# Altium footprint library Pattern No3d 20090609.PcbLib: 323 footprints (part 12 of 22)
Each footprint in its own frame and in the unit in brackets; x right, y up, seen from the top. Pads: shape width x height; smd on the part's side, far side on the other; paste and mask are expansions set on the pad; w line width, h text height; cw(c..) or ccw(c..) is an arc to the next point about the centre after c.
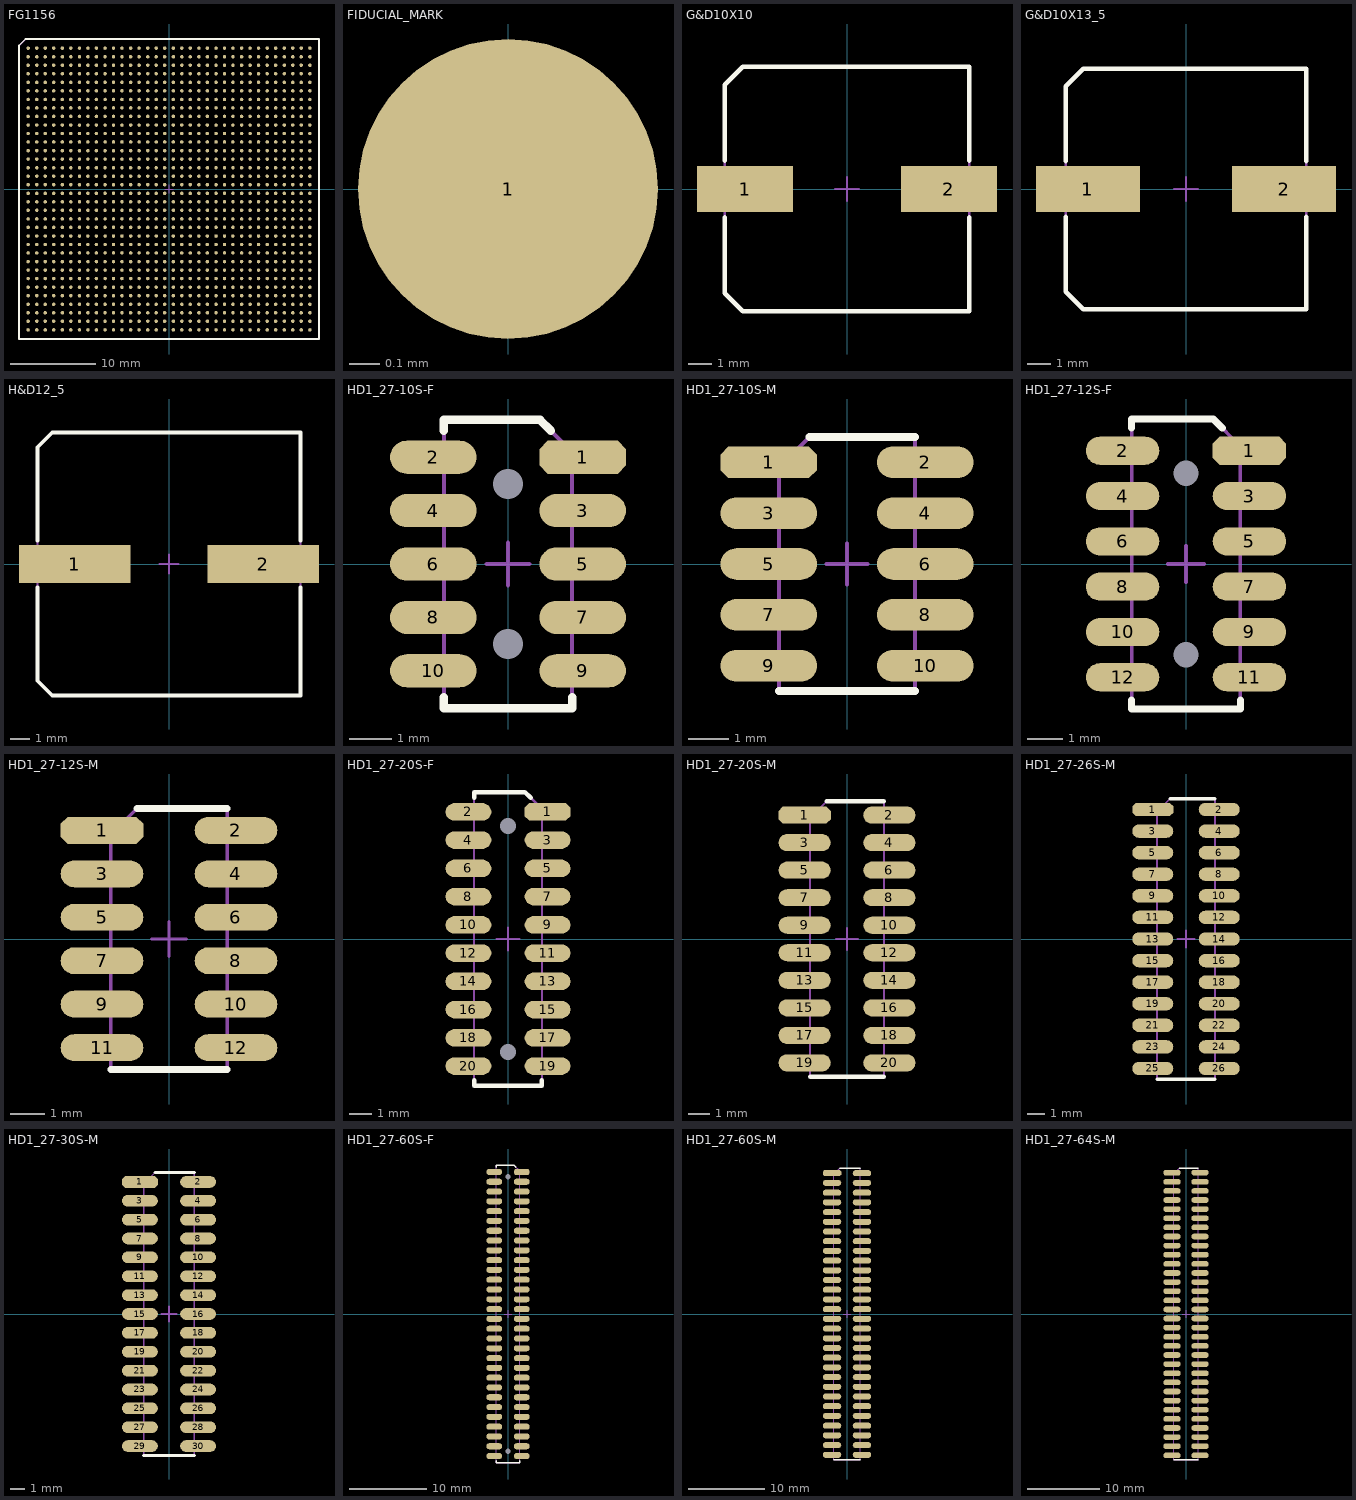
[diagram p11: the footprints below, top view; thin cyan lines are the x and y axes]

## FG1156 [mil] "http://www.xilinx.com/support/documentation/package_specs/fg1156.pdf"
pads (1156):
  oct 16x16 smd mask+3: A1(-650,650)
  round 16 smd mask+3: A2(-610,650) A3(-571,650) A4(-532,650) A5(-492,650) A6(-453,650) A7(-413,650) A8(-374,650) A9(-335,650) A10(-295,650) A11(-256,650) A12(-217,650) A13(-177,650) A14(-138,650) A15(-98,650) A16(-59,650) A17(-20,650) A18(20,650) A19(59,650) A20(98,650) A21(138,650) A22(177,650) A23(217,650) A24(256,650) A25(295,650) A26(335,650) A27(374,650) A28(413,650) A29(453,650) A30(492,650) A31(532,650) A32(571,650) A33(610,650) A34(650,650) AA1(-650,-138) AA2(-610,-138) AA3(-571,-138) AA4(-532,-138) AA5(-492,-138) AA6(-453,-138) AA7(-413,-138) AA8(-374,-138) AA9(-335,-138) AA10(-295,-138) AA11(-256,-138) AA12(-217,-138) AA13(-177,-138) AA14(-138,-138) AA15(-98,-138) AA16(-59,-138) AA17(-20,-138) AA18(20,-138) AA19(59,-138) AA20(98,-138) AA21(138,-138) AA22(177,-138) AA23(217,-138) AA24(256,-138) AA25(295,-138) AA26(335,-138) AA27(374,-138) AA28(413,-138) AA29(453,-138) AA30(492,-138) AA31(532,-138) AA32(571,-138) AA33(610,-138) AA34(650,-138) AB1(-650,-177) AB2(-610,-177) AB3(-571,-177) AB4(-532,-177) AB5(-492,-177) AB6(-453,-177) AB7(-413,-177) AB8(-374,-177) AB9(-335,-177) AB10(-295,-177) AB11(-256,-177) AB12(-217,-177) AB13(-177,-177) AB14(-138,-177) AB15(-98,-177) AB16(-59,-177) AB17(-20,-177) AB18(20,-177) AB19(59,-177) AB20(98,-177) AB21(138,-177) AB22(177,-177) AB23(217,-177) AB24(256,-177) AB25(295,-177) AB26(335,-177) AB27(374,-177) AB28(413,-177) AB29(453,-177) AB30(492,-177) AB31(532,-177) AB32(571,-177) AB33(610,-177) AB34(650,-177) AC1(-650,-217) AC2(-610,-217) AC3(-571,-217) AC4(-532,-217) AC5(-492,-217) AC6(-453,-217) AC7(-413,-217) AC8(-374,-217) AC9(-335,-217) AC10(-295,-217) AC11(-256,-217) AC12(-217,-217) AC13(-177,-217) AC14(-138,-217) AC15(-98,-217) AC16(-59,-217) AC17(-20,-217) AC18(20,-217) AC19(59,-217) AC20(98,-217) AC21(138,-217) AC22(177,-217) AC23(217,-217) AC24(256,-217) AC25(295,-217) AC26(335,-217) AC27(374,-217) AC28(413,-217) AC29(453,-217) AC30(492,-217) AC31(532,-217) AC32(571,-217) AC33(610,-217) AC34(650,-217) AD1(-650,-256) AD2(-610,-256) AD3(-571,-256) AD4(-532,-256) AD5(-492,-256) AD6(-453,-256) AD7(-413,-256) AD8(-374,-256) AD9(-335,-256) AD10(-295,-256) AD11(-256,-256) AD12(-217,-256) AD13(-177,-256) AD14(-138,-256) AD15(-98,-256) AD16(-59,-256) AD17(-20,-256) AD18(20,-256) AD19(59,-256) AD20(98,-256) AD21(138,-256) AD22(177,-256) AD23(217,-256) AD24(256,-256) AD25(295,-256) AD26(335,-256) AD27(374,-256) AD28(413,-256) AD29(453,-256) AD30(492,-256) AD31(532,-256) AD32(571,-256) AD33(610,-256) AD34(650,-256) AE1(-650,-295) AE2(-610,-295) AE3(-571,-295) AE4(-532,-295) AE5(-492,-295) AE6(-453,-295) AE7(-413,-295) AE8(-374,-295) AE9(-335,-295) AE10(-295,-295) AE11(-256,-295) AE12(-217,-295) AE13(-177,-295) AE14(-138,-295) AE15(-98,-295) AE16(-59,-295) AE17(-20,-295) AE18(20,-295) AE19(59,-295) AE20(98,-295) AE21(138,-295) AE22(177,-295) AE23(217,-295) AE24(256,-295) AE25(295,-295) AE26(335,-295) AE27(374,-295) AE28(413,-295) AE29(453,-295) AE30(492,-295) AE31(532,-295) AE32(571,-295) AE33(610,-295) AE34(650,-295) AF1(-650,-335) AF2(-610,-335) AF3(-571,-335) AF4(-532,-335) AF5(-492,-335) AF6(-453,-335) AF7(-413,-335) AF8(-374,-335) AF9(-335,-335) AF10(-295,-335) AF11(-256,-335) AF12(-217,-335) AF13(-177,-335) AF14(-138,-335) AF15(-98,-335) AF16(-59,-335) AF17(-20,-335) AF18(20,-335) AF19(59,-335) AF20(98,-335) AF21(138,-335) AF22(177,-335) AF23(217,-335) AF24(256,-335) AF25(295,-335) AF26(335,-335) AF27(374,-335) AF28(413,-335) AF29(453,-335) AF30(492,-335) AF31(532,-335) AF32(571,-335) AF33(610,-335) AF34(650,-335) AG1(-650,-374) AG2(-610,-374) AG3(-571,-374) AG4(-532,-374) AG5(-492,-374) AG6(-453,-374) AG7(-413,-374) AG8(-374,-374) AG9(-335,-374) AG10(-295,-374) AG11(-256,-374) AG12(-217,-374) AG13(-177,-374) AG14(-138,-374) AG15(-98,-374) AG16(-59,-374) AG17(-20,-374) AG18(20,-374) AG19(59,-374) AG20(98,-374) AG21(138,-374) AG22(177,-374) AG23(217,-374) AG24(256,-374) AG25(295,-374) AG26(335,-374) AG27(374,-374) AG28(413,-374) AG29(453,-374) AG30(492,-374) AG31(532,-374) AG32(571,-374) AG33(610,-374) AG34(650,-374) AH1(-650,-413) AH2(-610,-413) AH3(-571,-413) AH4(-532,-413) AH5(-492,-413) AH6(-453,-413) AH7(-413,-413) AH8(-374,-413) AH9(-335,-413) AH10(-295,-413) AH11(-256,-413) AH12(-217,-413) AH13(-177,-413) AH14(-138,-413) AH15(-98,-413) AH16(-59,-413) AH17(-20,-413) AH18(20,-413) AH19(59,-413) AH20(98,-413) AH21(138,-413) AH22(177,-413) AH23(217,-413) AH24(256,-413) AH25(295,-413) AH26(335,-413) AH27(374,-413) AH28(413,-413) AH29(453,-413) AH30(492,-413) AH31(532,-413) AH32(571,-413) AH33(610,-413) AH34(650,-413) AJ1(-650,-453) AJ2(-610,-453) AJ3(-571,-453) AJ4(-532,-453) AJ5(-492,-453) AJ6(-453,-453) AJ7(-413,-453) AJ8(-374,-453) AJ9(-335,-453) AJ10(-295,-453) AJ11(-256,-453) AJ12(-217,-453) AJ13(-177,-453) AJ14(-138,-453) AJ15(-98,-453) AJ16(-59,-453) AJ17(-20,-453) AJ18(20,-453) AJ19(59,-453) AJ20(98,-453) AJ21(138,-453) AJ22(177,-453) AJ23(217,-453) AJ24(256,-453) AJ25(295,-453) AJ26(335,-453) AJ27(374,-453) AJ28(413,-453) AJ29(453,-453) AJ30(492,-453) AJ31(532,-453) AJ32(571,-453) AJ33(610,-453) AJ34(650,-453) AK1(-650,-492) AK2(-610,-492) AK3(-571,-492) AK4(-532,-492) AK5(-492,-492) AK6(-453,-492) AK7(-413,-492) AK8(-374,-492) AK9(-335,-492) AK10(-295,-492) AK11(-256,-492) AK12(-217,-492) AK13(-177,-492) AK14(-138,-492) AK15(-98,-492) AK16(-59,-492) AK17(-20,-492) AK18(20,-492) AK19(59,-492) AK20(98,-492) AK21(138,-492) AK22(177,-492) AK23(217,-492) AK24(256,-492) AK25(295,-492) AK26(335,-492) AK27(374,-492) AK28(413,-492) AK29(453,-492) AK30(492,-492) AK31(532,-492) AK32(571,-492) AK33(610,-492) AK34(650,-492) AL1(-650,-532) AL2(-610,-532) AL3(-571,-532) AL4(-532,-532) AL5(-492,-532) AL6(-453,-532) AL7(-413,-532) AL8(-374,-532) AL9(-335,-532) AL10(-295,-532) AL11(-256,-532) AL12(-217,-532) AL13(-177,-532) AL14(-138,-532) AL15(-98,-532) AL16(-59,-532) AL17(-20,-532) AL18(20,-532) AL19(59,-532) AL20(98,-532) AL21(138,-532) AL22(177,-532) AL23(217,-532) AL24(256,-532) AL25(295,-532) AL26(335,-532) AL27(374,-532) AL28(413,-532) AL29(453,-532) AL30(492,-532) AL31(532,-532) AL32(571,-532) AL33(610,-532) AL34(650,-532) AM1(-650,-571) AM2(-610,-571) AM3(-571,-571) AM4(-532,-571) AM5(-492,-571) AM6(-453,-571) AM7(-413,-571) AM8(-374,-571) AM9(-335,-571) AM10(-295,-571) AM11(-256,-571) AM12(-217,-571) AM13(-177,-571) AM14(-138,-571) AM15(-98,-571) AM16(-59,-571) AM17(-20,-571) AM18(20,-571) AM19(59,-571) AM20(98,-571) AM21(138,-571) AM22(177,-571) AM23(217,-571) AM24(256,-571) AM25(295,-571) AM26(335,-571) AM27(374,-571) AM28(413,-571) AM29(453,-571) AM30(492,-571) AM31(532,-571) AM32(571,-571) AM33(610,-571) AM34(650,-571) AN1(-650,-610) AN2(-610,-610) AN3(-571,-610) AN4(-532,-610) AN5(-492,-610) AN6(-453,-610) AN7(-413,-610) AN8(-374,-610) AN9(-335,-610) AN10(-295,-610) AN11(-256,-610) AN12(-217,-610) AN13(-177,-610) AN14(-138,-610) AN15(-98,-610) AN16(-59,-610) AN17(-20,-610) AN18(20,-610) AN19(59,-610) AN20(98,-610) AN21(138,-610) AN22(177,-610) AN23(217,-610) AN24(256,-610) AN25(295,-610) AN26(335,-610) AN27(374,-610) AN28(413,-610) AN29(453,-610) AN30(492,-610) AN31(532,-610) AN32(571,-610) AN33(610,-610) AN34(650,-610) AP1(-650,-650) AP2(-610,-650) AP3(-571,-650) AP4(-532,-650) AP5(-492,-650) AP6(-453,-650) AP7(-413,-650) AP8(-374,-650) AP9(-335,-650) AP10(-295,-650) AP11(-256,-650) AP12(-217,-650) AP13(-177,-650) AP14(-138,-650) AP15(-98,-650) AP16(-59,-650) AP17(-20,-650) AP18(20,-650) AP19(59,-650) AP20(98,-650) AP21(138,-650) AP22(177,-650) AP23(217,-650) AP24(256,-650) AP25(295,-650) AP26(335,-650) AP27(374,-650) AP28(413,-650) AP29(453,-650) AP30(492,-650) AP31(532,-650) AP32(571,-650) AP33(610,-650) AP34(650,-650) B1(-650,610) B2(-610,610) B3(-571,610) B4(-532,610) B5(-492,610) B6(-453,610) B7(-413,610) B8(-374,610) B9(-335,610) B10(-295,610) B11(-256,610) B12(-217,610) B13(-177,610) B14(-138,610) B15(-98,610) B16(-59,610) B17(-20,610) B18(20,610) B19(59,610) B20(98,610) B21(138,610) B22(177,610) B23(217,610) B24(256,610) B25(295,610) B26(335,610) B27(374,610) B28(413,610) B29(453,610) B30(492,610) B31(532,610) B32(571,610) B33(610,610) B34(650,610) C1(-650,571) C2(-610,571) C3(-571,571) C4(-532,571) C5(-492,571) C6(-453,571) C7(-413,571) C8(-374,571) C9(-335,571) C10(-295,571) C11(-256,571) C12(-217,571) C13(-177,571) C14(-138,571) C15(-98,571) C16(-59,571) C17(-20,571) C18(20,571) C19(59,571) C20(98,571) C21(138,571) C22(177,571) C23(217,571) C24(256,571) C25(295,571) C26(335,571) C27(374,571) C28(413,571) C29(453,571) C30(492,571) C31(532,571) C32(571,571) C33(610,571) C34(650,571) D1(-650,532) D2(-610,532) D3(-571,532) D4(-532,532) D5(-492,532) D6(-453,532) D7(-413,532) D8(-374,532) D9(-335,532) D10(-295,532) D11(-256,532) D12(-217,532) D13(-177,532) D14(-138,532) D15(-98,532) D16(-59,532) D17(-20,532) D18(20,532) D19(59,532) D20(98,532) D21(138,532) D22(177,532) D23(217,532) D24(256,532) D25(295,532) D26(335,532) D27(374,532) D28(413,532) D29(453,532) D30(492,532) D31(532,532) D32(571,532) D33(610,532) D34(650,532) E1(-650,492) E2(-610,492) E3(-571,492) E4(-532,492) E5(-492,492) E6(-453,492) E7(-413,492) E8(-374,492) E9(-335,492) E10(-295,492) E11(-256,492) E12(-217,492) E13(-177,492) E14(-138,492) E15(-98,492) E16(-59,492) E17(-20,492) E18(20,492) E19(59,492) E20(98,492) E21(138,492) E22(177,492) E23(217,492) E24(256,492) E25(295,492) E26(335,492) E27(374,492) E28(413,492) E29(453,492) E30(492,492) E31(532,492) E32(571,492) E33(610,492) E34(650,492) F1(-650,453) F2(-610,453) F3(-571,453) F4(-532,453) F5(-492,453) F6(-453,453) F7(-413,453) F8(-374,453) F9(-335,453) F10(-295,453) F11(-256,453) F12(-217,453) F13(-177,453) F14(-138,453) F15(-98,453) F16(-59,453) F17(-20,453) F18(20,453) F19(59,453) F20(98,453) F21(138,453) F22(177,453) F23(217,453) F24(256,453) F25(295,453) F26(335,453) F27(374,453) F28(413,453) F29(453,453) F30(492,453) F31(532,453) F32(571,453) F33(610,453) F34(650,453) G1(-650,413) G2(-610,413) G3(-571,413) G4(-532,413) G5(-492,413) G6(-453,413) G7(-413,413) G8(-374,413) G9(-335,413) G10(-295,413) G11(-256,413) G12(-217,413) G13(-177,413) G14(-138,413) G15(-98,413) G16(-59,413) G17(-20,413) G18(20,413) G19(59,413) G20(98,413) G21(138,413) G22(177,413) G23(217,413) G24(256,413) G25(295,413) G26(335,413) G27(374,413) G28(413,413) G29(453,413) G30(492,413) G31(532,413) G32(571,413) G33(610,413) G34(650,413) H1(-650,374) H2(-610,374) H3(-571,374) H4(-532,374) H5(-492,374) H6(-453,374) H7(-413,374) H8(-374,374) H9(-335,374) H10(-295,374) H11(-256,374) H12(-217,374) H13(-177,374) H14(-138,374) H15(-98,374) H16(-59,374) H17(-20,374) H18(20,374) H19(59,374) H20(98,374) H21(138,374) H22(177,374) H23(217,374) H24(256,374) H25(295,374) H26(335,374) H27(374,374) H28(413,374) H29(453,374) H30(492,374) H31(532,374) H32(571,374) H33(610,374) H34(650,374) J1(-650,335) J2(-610,335) J3(-571,335) J4(-532,335) J5(-492,335) J6(-453,335) J7(-413,335) J8(-374,335) J9(-335,335) J10(-295,335) J11(-256,335) J12(-217,335) J13(-177,335) J14(-138,335) J15(-98,335) J16(-59,335) J17(-20,335) J18(20,335) J19(59,335) J20(98,335) J21(138,335) J22(177,335) J23(217,335) J24(256,335) J25(295,335) J26(335,335) J27(374,335) J28(413,335) J29(453,335) J30(492,335) J31(532,335) J32(571,335) J33(610,335) J34(650,335) K1(-650,295) K2(-610,295) K3(-571,295) K4(-532,295) K5(-492,295) K6(-453,295) K7(-413,295) K8(-374,295) K9(-335,295) K10(-295,295) K11(-256,295) K12(-217,295) K13(-177,295) K14(-138,295) K15(-98,295) K16(-59,295) K17(-20,295) K18(20,295) K19(59,295) K20(98,295) K21(138,295) K22(177,295) K23(217,295) K24(256,295) K25(295,295) K26(335,295) K27(374,295) K28(413,295) K29(453,295) K30(492,295) K31(532,295) K32(571,295) K33(610,295) K34(650,295) L1(-650,256) L2(-610,256) L3(-571,256) L4(-532,256) L5(-492,256) L6(-453,256) L7(-413,256) L8(-374,256) L9(-335,256) L10(-295,256) L11(-256,256) L12(-217,256) L13(-177,256) L14(-138,256) L15(-98,256) L16(-59,256) L17(-20,256) L18(20,256) L19(59,256) L20(98,256) L21(138,256) L22(177,256) L23(217,256) L24(256,256) L25(295,256) L26(335,256) L27(374,256) L28(413,256) L29(453,256) L30(492,256) L31(532,256) L32(571,256) L33(610,256) L34(650,256) M1(-650,217) M2(-610,217) M3(-571,217) M4(-532,217) M5(-492,217) M6(-453,217) M7(-413,217) M8(-374,217) M9(-335,217) M10(-295,217) M11(-256,217) M12(-217,217) M13(-177,217) M14(-138,217) M15(-98,217) M16(-59,217) M17(-20,217) M18(20,217) M19(59,217) M20(98,217) M21(138,217) M22(177,217) M23(217,217) M24(256,217) M25(295,217) M26(335,217) M27(374,217) M28(413,217) M29(453,217) M30(492,217) M31(532,217) M32(571,217) M33(610,217) M34(650,217) N1(-650,177) N2(-610,177) N3(-571,177) N4(-532,177) N5(-492,177) N6(-453,177) N7(-413,177) N8(-374,177) N9(-335,177) N10(-295,177) N11(-256,177) N12(-217,177) N13(-177,177) N14(-138,177) N15(-98,177) N16(-59,177) N17(-20,177) N18(20,177) N19(59,177) N20(98,177) N21(138,177) N22(177,177) N23(217,177) N24(256,177) N25(295,177) N26(335,177) N27(374,177) N28(413,177) N29(453,177) N30(492,177) N31(532,177) N32(571,177) N33(610,177) N34(650,177) P1(-650,138) P2(-610,138) P3(-571,138) P4(-532,138) P5(-492,138) P6(-453,138) P7(-413,138) P8(-374,138) P9(-335,138) P10(-295,138) P11(-256,138) P12(-217,138) P13(-177,138) P14(-138,138) P15(-98,138) P16(-59,138) P17(-20,138) P18(20,138) P19(59,138) P20(98,138) P21(138,138) P22(177,138) P23(217,138) P24(256,138) P25(295,138) P26(335,138) P27(374,138) P28(413,138) P29(453,138) P30(492,138) P31(532,138) P32(571,138) P33(610,138) P34(650,138) R1(-650,98) R2(-610,98) R3(-571,98) R4(-532,98) R5(-492,98) R6(-453,98) R7(-413,98) R8(-374,98) R9(-335,98) R10(-295,98) R11(-256,98) R12(-217,98) R13(-177,98) R14(-138,98) R15(-98,98) R16(-59,98) R17(-20,98) R18(20,98) R19(59,98) R20(98,98) R21(138,98) R22(177,98) R23(217,98) R24(256,98) R25(295,98) R26(335,98) R27(374,98) R28(413,98) R29(453,98) R30(492,98) R31(532,98) R32(571,98) R33(610,98) R34(650,98) T1(-650,59) T2(-610,59) T3(-571,59) T4(-532,59) T5(-492,59) T6(-453,59) T7(-413,59) T8(-374,59) T9(-335,59) T10(-295,59) T11(-256,59) T12(-217,59) T13(-177,59) T14(-138,59) T15(-98,59) T16(-59,59) T17(-20,59) T18(20,59) T19(59,59) T20(98,59) T21(138,59) T22(177,59) T23(217,59) T24(256,59) T25(295,59) T26(335,59) T27(374,59) T28(413,59) T29(453,59) T30(492,59) T31(532,59) T32(571,59) T33(610,59) T34(650,59) U1(-650,20) U2(-610,20) U3(-571,20) U4(-532,20) U5(-492,20) U6(-453,20) U7(-413,20) U8(-374,20) U9(-335,20) U10(-295,20) U11(-256,20) U12(-217,20) U13(-177,20) U14(-138,20) U15(-98,20) U16(-59,20) U17(-20,20) U18(20,20) U19(59,20) U20(98,20) U21(138,20) U22(177,20) U23(217,20) U24(256,20) U25(295,20) U26(335,20) U27(374,20) U28(413,20) U29(453,20) U30(492,20) U31(532,20) U32(571,20) U33(610,20) U34(650,20) V1(-650,-20) V2(-610,-20) V3(-571,-20) V4(-532,-20) V5(-492,-20) V6(-453,-20) V7(-413,-20) V8(-374,-20) V9(-335,-20) V10(-295,-20) V11(-256,-20) V12(-217,-20) V13(-177,-20) V14(-138,-20) V15(-98,-20) V16(-59,-20) V17(-20,-20) V18(20,-20) V19(59,-20) V20(98,-20) V21(138,-20) V22(177,-20) V23(217,-20) V24(256,-20) V25(295,-20) V26(335,-20) V27(374,-20) V28(413,-20) V29(453,-20) V30(492,-20) V31(532,-20) V32(571,-20) V33(610,-20) V34(650,-20) W1(-650,-59) W2(-610,-59) W3(-571,-59) W4(-532,-59) W5(-492,-59) W6(-453,-59) W7(-413,-59) W8(-374,-59) W9(-335,-59) W10(-295,-59) W11(-256,-59) W12(-217,-59) W13(-177,-59) W14(-138,-59) W15(-98,-59) W16(-59,-59) W17(-20,-59) W18(20,-59) W19(59,-59) W20(98,-59) W21(138,-59) W22(177,-59) W23(217,-59) W24(256,-59) W25(295,-59) W26(335,-59) W27(374,-59) W28(413,-59) W29(453,-59) W30(492,-59) W31(532,-59) W32(571,-59) W33(610,-59) W34(650,-59) Y1(-650,-98) Y2(-610,-98) Y3(-571,-98) Y4(-532,-98) Y5(-492,-98) Y6(-453,-98) Y7(-413,-98) Y8(-374,-98) Y9(-335,-98) Y10(-295,-98) Y11(-256,-98) Y12(-217,-98) Y13(-177,-98) Y14(-138,-98) Y15(-98,-98) Y16(-59,-98) Y17(-20,-98) Y18(20,-98) Y19(59,-98) Y20(98,-98) Y21(138,-98) Y22(177,-98) Y23(217,-98) Y24(256,-98) Y25(295,-98) Y26(335,-98) Y27(374,-98) Y28(413,-98) Y29(453,-98) Y30(492,-98) Y31(532,-98) Y32(571,-98) Y33(610,-98) Y34(650,-98)
Top Overlay:
  lines w8: -692,-692 692,-692 692,692 -662,692 -692,662 -692,-692
Mechanical 1:
  lines w4: -692,-692 692,-692 692,692 -662,692 -692,662 -692,-692
Mechanical 15:
  lines w4: -20,0 20,0 ; 0,-20 0,20

## FIDUCIAL_MARK [mil]
pads (1):
  round 39 smd paste-1000 mask+40: 1(0,0)

## G&D10X10 [mil] "http://www.panasonic.com/industrial/components/pdf/pic_vs_series.pdf (Size G)"
pads (2):
  rect 162x78 smd mask+4: 1(-172,0) 2(172,0)
Top Overlay:
  lines w8: -206,-48 -206,-176 -176,-206 206,-206 206,-48 ; -206,48 -206,176 -176,206 206,206 206,48
Mechanical 1:
  lines w4: -206,-176 -176,-206 206,-206 206,206 -176,206 -206,176 -206,-176
Mechanical 15:
  lines w4: -20,0 20,0 ; 0,-20 0,20

## G&D10X13_5 [mil] "http://www.panasonic.com/industrial/components/pdf/ABA0000CE11.pdf (Size G13)"
pads (2):
  rect 178x78 smd mask+4: 1(-168,0) 2(168,0)
Top Overlay:
  lines w8: -206,-48 -206,-176 -176,-206 206,-206 206,-48 ; -206,48 -206,176 -176,206 206,206 206,48
Mechanical 1:
  lines w4: -206,-176 -176,-206 206,-206 206,206 -176,206 -206,176 -206,-176
Mechanical 15:
  lines w4: -20,0 20,0 ; 0,-20 0,20

## H&D12_5 [mil] "http://www.panasonic.com/industrial/components/pdf/ABA0000CE11.pdf (Size H16)"
pads (2):
  rect 228x78 smd mask+4: 1(-193,0) 2(193,0)
Top Overlay:
  lines w8: -269,-48 -269,-239 -239,-269 269,-269 269,-48 ; -269,48 -269,239 -239,269 269,269 269,48
Mechanical 1:
  lines w4: -269,-239 -239,-269 269,-269 269,269 -239,269 -269,239 -269,-239
Mechanical 15:
  lines w4: -20,0 20,0 ; 0,-20 0,20

## HD1_27-10S-F [mil] "http://www.harwin.com/include/downloads/drawings/M50-315.PDF (10 Way)"
pads (12):
  oct 81x31 smd mask+4: 1(70,100)
  oval 81x31 smd mask+4: 2(-70,100) 3(70,50) 4(-70,50) 5(70,0) 6(-70,0) 7(70,-50) 8(-70,-50) 9(70,-100) 10(-70,-100)
  round 0 hole 28 paste-1000 mask+18: 11(0,-75) 11(0,75)
Top Overlay:
  lines w8: -60,-125 -60,-135 60,-135 60,-125 ; -60,125 -60,135 30,135 40,125
Mechanical 1:
  lines w4: -60,-135 -60,135 30,135 60,105 60,-135 -60,-135
Mechanical 15:
  lines w4: -20,0 20,0 ; 0,-20 0,20

## HD1_27-10S-M [mil] "http://www.harwin.com/include/downloads/drawings/M50-360.PDF (10 Way)"
pads (10):
  oct 95x31 smd mask+4: 1(-77,100)
  oval 95x31 smd mask+4: 2(77,100) 3(-77,50) 4(77,50) 5(-77,0) 6(77,0) 7(-77,-50) 8(77,-50) 9(-77,-100) 10(77,-100)
Top Overlay:
  lines w8: -67,-125 67,-125 ; -37,125 67,125
Mechanical 1:
  lines w4: -67,-125 -67,95 -37,125 67,125 67,-125 -67,-125
Mechanical 15:
  lines w4: -20,0 20,0 ; 0,-20 0,20

## HD1_27-12S-F [mil] "http://www.harwin.com/include/downloads/drawings/M50-315.PDF (12 Way)"
pads (14):
  oct 81x31 smd mask+4: 1(70,125)
  oval 81x31 smd mask+4: 2(-70,125) 3(70,75) 4(-70,75) 5(70,25) 6(-70,25) 7(70,-25) 8(-70,-25) 9(70,-75) 10(-70,-75) 11(70,-125) 12(-70,-125)
  round 0 hole 28 paste-1000 mask+18: 11(0,-100) 11(0,100)
Top Overlay:
  lines w8: -60,-150 -60,-160 60,-160 60,-150 ; -60,150 -60,160 30,160 40,150
Mechanical 1:
  lines w4: -60,-160 60,-160 60,130 30,160 -60,160 -60,-160
Mechanical 15:
  lines w4: -20,0 20,0 ; 0,-20 0,20

## HD1_27-12S-M [mil] "http://www.harwin.com/include/downloads/drawings/M50-360.PDF (12 Way)"
pads (12):
  oct 95x31 smd mask+4: 1(-77,125)
  oval 95x31 smd mask+4: 2(77,125) 3(-77,75) 4(77,75) 5(-77,25) 6(77,25) 7(-77,-25) 8(77,-25) 9(-77,-75) 10(77,-75) 11(-77,-125) 12(77,-125)
Top Overlay:
  lines w8: -67,-150 67,-150 ; -37,150 67,150
Mechanical 1:
  lines w4: -67,-150 -67,120 -37,150 67,150 67,-150 -67,-150
Mechanical 15:
  lines w4: -20,0 20,0 ; 0,-20 0,20

## HD1_27-20S-F [mil] "http://www.harwin.com/include/downloads/drawings/M50-315.PDF (20 Way)"
pads (22):
  oct 81x31 smd mask+4: 1(70,225)
  oval 81x31 smd mask+4: 2(-70,225) 3(70,175) 4(-70,175) 5(70,125) 6(-70,125) 7(70,75) 8(-70,75) 9(70,25) 10(-70,25) 11(70,-25) 12(-70,-25) 13(70,-75) 14(-70,-75) 15(70,-125) 16(-70,-125) 17(70,-175) 18(-70,-175) 19(70,-225) 20(-70,-225)
  round 0 hole 28 paste-1000 mask+18: 11(0,-200) 11(0,200)
Top Overlay:
  lines w8: -60,-250 -60,-260 60,-260 60,-250 ; -60,250 -60,260 30,260 40,250
Mechanical 1:
  lines w4: -60,-260 -60,260 30,260 60,230 60,-260 -60,-260
Mechanical 15:
  lines w4: -20,0 20,0 ; 0,-20 0,20

## HD1_27-20S-M [mil] "http://www.harwin.com/include/downloads/drawings/M50-360.PDF (20 Way)"
pads (20):
  oct 95x31 smd mask+4: 1(-77,225)
  oval 95x31 smd mask+4: 2(77,225) 3(-77,175) 4(77,175) 5(-77,125) 6(77,125) 7(-77,75) 8(77,75) 9(-77,25) 10(77,25) 11(-77,-25) 12(77,-25) 13(-77,-75) 14(77,-75) 15(-77,-125) 16(77,-125) 17(-77,-175) 18(77,-175) 19(-77,-225) 20(77,-225)
Top Overlay:
  lines w8: -67,-250 67,-250 ; -37,250 67,250
Mechanical 1:
  lines w4: -67,-250 67,-250 67,250 -37,250 -67,220 -67,-250
Mechanical 15:
  lines w4: -20,0 20,0 ; 0,-20 0,20

## HD1_27-26S-M [mil] "http://www.harwin.com/include/downloads/drawings/M50-360.PDF (26 Way)"
pads (26):
  oct 95x31 smd mask+4: 1(-77,300)
  oval 95x31 smd mask+4: 2(77,300) 3(-77,250) 4(77,250) 5(-77,200) 6(77,200) 7(-77,150) 8(77,150) 9(-77,100) 10(77,100) 11(-77,50) 12(77,50) 13(-77,0) 14(77,0) 15(-77,-50) 16(77,-50) 17(-77,-100) 18(77,-100) 19(-77,-150) 20(77,-150) 21(-77,-200) 22(77,-200) 23(-77,-250) 24(77,-250) 25(-77,-300) 26(77,-300)
Top Overlay:
  lines w8: -67,-325 67,-325 ; -37,325 67,325
Mechanical 1:
  lines w4: -67,-325 -67,295 -37,325 67,325 67,-325 -67,-325
Mechanical 15:
  lines w4: -20,0 20,0 ; 0,-20 0,20

## HD1_27-30S-M [mil] "http://www.harwin.com/include/downloads/drawings/M50-360.PDF (30 Way)"
pads (30):
  oct 95x31 smd mask+4: 1(-77,350)
  oval 95x31 smd mask+4: 2(77,350) 3(-77,300) 4(77,300) 5(-77,250) 6(77,250) 7(-77,200) 8(77,200) 9(-77,150) 10(77,150) 11(-77,100) 12(77,100) 13(-77,50) 14(77,50) 15(-77,0) 16(77,0) 17(-77,-50) 18(77,-50) 19(-77,-100) 20(77,-100) 21(-77,-150) 22(77,-150) 23(-77,-200) 24(77,-200) 25(-77,-250) 26(77,-250) 27(-77,-300) 28(77,-300) 29(-77,-350) 30(77,-350)
Top Overlay:
  lines w8: -67,-375 67,-375 ; -37,375 67,375
Mechanical 1:
  lines w4: -67,-375 -67,345 -37,375 67,375 67,-375 -67,-375
Mechanical 15:
  lines w4: -20,0 20,0 ; 0,-20 0,20

## HD1_27-60S-F [mil] "http://www.harwin.com/include/downloads/drawings/M50-315.PDF (60 Way)"
pads (62):
  oct 81x31 smd mask+4: 1(70,725)
  oval 81x31 smd mask+4: 2(-70,725) 3(70,675) 4(-70,675) 5(70,625) 6(-70,625) 7(70,575) 8(-70,575) 9(70,525) 10(-70,525) 11(70,475) 12(-70,475) 13(70,425) 14(-70,425) 15(70,375) 16(-70,375) 17(70,325) 18(-70,325) 19(70,275) 20(-70,275) 21(70,225) 22(-70,225) 23(70,175) 24(-70,175) 25(70,125) 26(-70,125) 27(70,75) 28(-70,75) 29(70,25) 30(-70,25) 31(70,-25) 32(-70,-25) 33(70,-75) 34(-70,-75) 35(70,-125) 36(-70,-125) 37(70,-175) 38(-70,-175) 39(70,-225) 40(-70,-225) 41(70,-275) 42(-70,-275) 43(70,-325) 44(-70,-325) 45(70,-375) 46(-70,-375) 47(70,-425) 48(-70,-425) 49(70,-475) 50(-70,-475) 51(70,-525) 52(-70,-525) 53(70,-575) 54(-70,-575) 55(70,-625) 56(-70,-625) 57(70,-675) 58(-70,-675) 59(70,-725) 60(-70,-725)
  round 0 hole 28 paste-1000 mask+18: 11(0,-700) 11(0,700)
Top Overlay:
  lines w8: -60,-750 -60,-760 60,-760 60,-750 ; -60,750 -60,760 30,760 40,750
Mechanical 1:
  lines w4: -60,-760 60,-760 60,730 30,760 -60,760 -60,-760
Mechanical 15:
  lines w4: -20,0 20,0 ; 0,-20 0,20

## HD1_27-60S-M [mil] "http://www.harwin.com/include/downloads/drawings/M50-360.PDF (60 Way)"
pads (60):
  oct 95x31 smd mask+4: 1(-77,725)
  oval 95x31 smd mask+4: 2(77,725) 3(-77,675) 4(77,675) 5(-77,625) 6(77,625) 7(-77,575) 8(77,575) 9(-77,525) 10(77,525) 11(-77,475) 12(77,475) 13(-77,425) 14(77,425) 15(-77,375) 16(77,375) 17(-77,325) 18(77,325) 19(-77,275) 20(77,275) 21(-77,225) 22(77,225) 23(-77,175) 24(77,175) 25(-77,125) 26(77,125) 27(-77,75) 28(77,75) 29(-77,25) 30(77,25) 31(-77,-25) 32(77,-25) 33(-77,-75) 34(77,-75) 35(-77,-125) 36(77,-125) 37(-77,-175) 38(77,-175) 39(-77,-225) 40(77,-225) 41(-77,-275) 42(77,-275) 43(-77,-325) 44(77,-325) 45(-77,-375) 46(77,-375) 47(-77,-425) 48(77,-425) 49(-77,-475) 50(77,-475) 51(-77,-525) 52(77,-525) 53(-77,-575) 54(77,-575) 55(-77,-625) 56(77,-625) 57(-77,-675) 58(77,-675) 59(-77,-725) 60(77,-725)
Top Overlay:
  lines w8: -67,-750 67,-750 ; -37,750 67,750
Mechanical 1:
  lines w4: -67,-750 67,-750 67,750 -37,750 -67,720 -67,-750
Mechanical 15:
  lines w4: -20,0 20,0 ; 0,-20 0,20

## HD1_27-64S-M [mil] "http://www.harwin.com/include/downloads/drawings/M50-360.PDF (64 Way)"
pads (64):
  oct 95x31 smd mask+4: 1(-77,775)
  oval 95x31 smd mask+4: 2(77,775) 3(-77,725) 4(77,725) 5(-77,675) 6(77,675) 7(-77,625) 8(77,625) 9(-77,575) 10(77,575) 11(-77,525) 12(77,525) 13(-77,475) 14(77,475) 15(-77,425) 16(77,425) 17(-77,375) 18(77,375) 19(-77,325) 20(77,325) 21(-77,275) 22(77,275) 23(-77,225) 24(77,225) 25(-77,175) 26(77,175) 27(-77,125) 28(77,125) 29(-77,75) 30(77,75) 31(-77,25) 32(77,25) 33(-77,-25) 34(77,-25) 35(-77,-75) 36(77,-75) 37(-77,-125) 38(77,-125) 39(-77,-175) 40(77,-175) 41(-77,-225) 42(77,-225) 43(-77,-275) 44(77,-275) 45(-77,-325) 46(77,-325) 47(-77,-375) 48(77,-375) 49(-77,-425) 50(77,-425) 51(-77,-475) 52(77,-475) 53(-77,-525) 54(77,-525) 55(-77,-575) 56(77,-575) 57(-77,-625) 58(77,-625) 59(-77,-675) 60(77,-675) 61(-77,-725) 62(77,-725) 63(-77,-775) 64(77,-775)
Top Overlay:
  lines w8: -67,-800 67,-800 ; -37,800 67,800
Mechanical 1:
  lines w4: -67,-800 -67,770 -37,800 67,800 67,-800 -67,-800
Mechanical 15:
  lines w4: -20,0 20,0 ; 0,-20 0,20